# EAGLE library part SD_CARD (library memory)
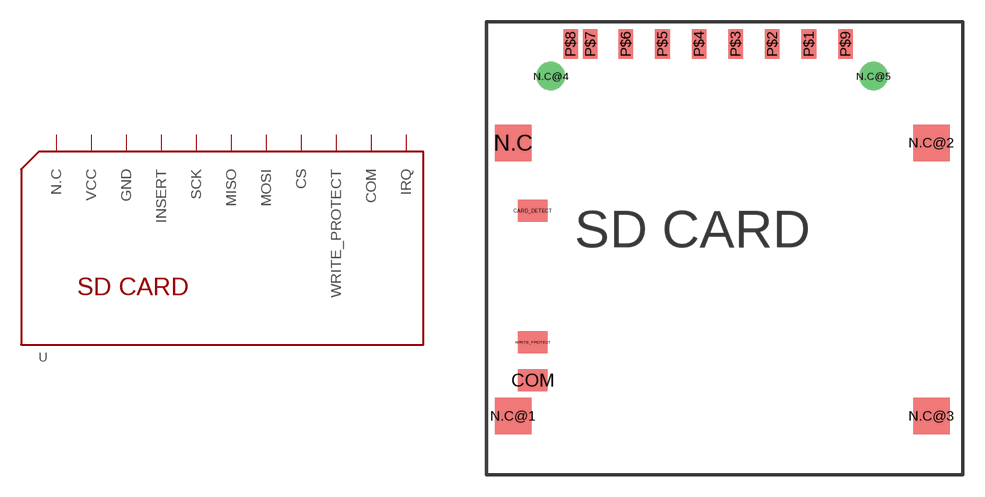
[diagram p0: symbol with the pads of SD; footprint SD]

Designator prefix U

## SD_CARD  [SD]
CARD_DETECT  INSERT
COM  COM
N.C  N.C
N.C@1  N.C
N.C@2  N.C
N.C@3  N.C
N.C@4  N.C
N.C@5  N.C
P$1  CS
P$2  MOSI
P$3  GND
P$4  VCC
P$5  SCK
P$6  GND
P$7  MISO
P$8  IRQ
P$9  N.C
WRITE_PROTECT  WRITE_PROTECT

## Footprint SD (pad centres in mm)
smd 2 x 1.5: CARD_DETECT -1.225,-9.2; COM -1.225,-20.75; WRITE_PROTECT -1.225,-18.15
smd 2.5 x 2.5: N.C -2.575,-4.55; N.C@1 -2.575,-23.2; N.C@2 26,-4.55; N.C@3 26,-23.2
drill 1.3: N.C@4 0,0; N.C@5 22.05,0
smd 1 x 2: P$1 17.625,2.2; P$2 15.125,2.2; P$3 12.625,2.2; P$4 10.125,2.2; P$5 7.625,2.2; P$6 5.125,2.2; P$7 2.7,2.2; P$8 1.35,2.2; P$9 20.125,2.2